# Altium schematic symbol library battery.SchLib: 5 symbols
Pins are listed as number, name and electrical type; pins without a type are passive.

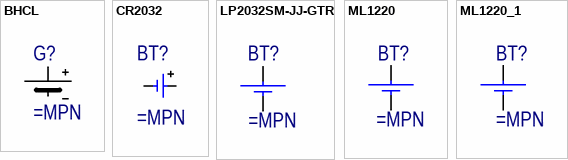
[diagram p0: symbols BHCL to ML1220_1]

## BHCL
designator G?
BATTERY HOLDER C SOLDER LUG
pins: 1, 2

## CR2032
designator BT?
pins: 1, 2

## LP2032SM-JJ-GTR
designator BT?
pins: 1, 2

## ML1220
designator BT?
pins: 1, 2

## ML1220_1
designator BT?
pins: 1, 2